# Altium schematic symbol library Schlib1.SchLib: 2 symbols
Pins are listed as number, name and electrical type; pins without a type are passive.

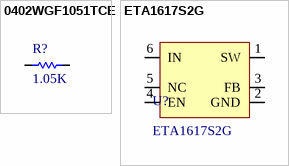
[diagram p0: symbols 0402WGF1051TCE to ETA1617S2G]

## 0402WGF1051TCE
designator R?, comment 1.05K
62.5mW Thick Film Resistors 50V ±100ppm/℃ ±1% 1.05kΩ 0402 Chip Resistor - Surface Mount ROHS; Manufacturer: UNI-Royal; Manufacturer Part Number: 0402WGF1051TCE; LCSC Part Number: C474080; Item Type: Resistor; Package: 0402; ComponentLink1Description: LCSC Link; ComponentLink1URL: https://www.lcsc.com/product-detail/Chip-Resistor-Surface-Mount_UNI-ROYAL-Uniroyal-Elec-0402WGF1051TCE_C474080.html
footprint Res-0402
pins: 1, 2

## ETA1617S2G
designator U?
SOT23-6 LED Drivers ROHS; Manufacturer: etasolutions; Manufacturer Part Number: ETA1617S2G; LCSC Part Number: C7465515; Item Type: LED Driver; Package: SOT23-6; ComponentLink1Description: LCSC Link; ComponentLink1URL: https://www.lcsc.com/product-detail/LED-Drivers_etasolution-ETA1617S2G_C7465515.html
footprint SOT23-6
pins: 1 SW, 2 GND, 3 FB, 4 EN, 5 NC, 6 IN